# EAGLE library part SENSOR_PKGX14-2209 (library akita)
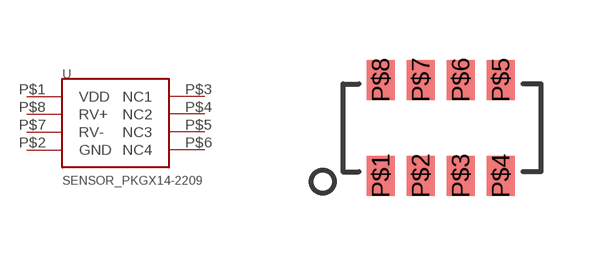
[diagram p86: symbol with the pads of PKGX15_MRT; footprint PKGX15_MRT]

Designator prefix U

## SENSOR_PKGX14-2209  [PKGX15_MRT]
P$1  VDD
P$2  GND
P$3  NC1
P$4  NC2
P$5  NC3
P$6  NC4
P$7  RV-
P$8  RV+

## Footprint PKGX15_MRT (pad centres in mm)
smd 0.7 x 1: P$1 -1.5,-1.2; P$2 -0.5,-1.2; P$3 0.5,-1.2; P$4 1.5,-1.2; P$5 1.5,1.2; P$6 0.5,1.2; P$7 -0.5,1.2; P$8 -1.5,1.2